# Altium footprint library local_lib.PcbLib: 3 footprints
Each footprint in its own frame and in the unit in brackets; x right, y up, seen from the top. Pads: shape width x height; smd on the part's side, far side on the other; paste and mask are expansions set on the pad; w line width, h text height; cw(c..) or ccw(c..) is an arc to the next point about the centre after c.
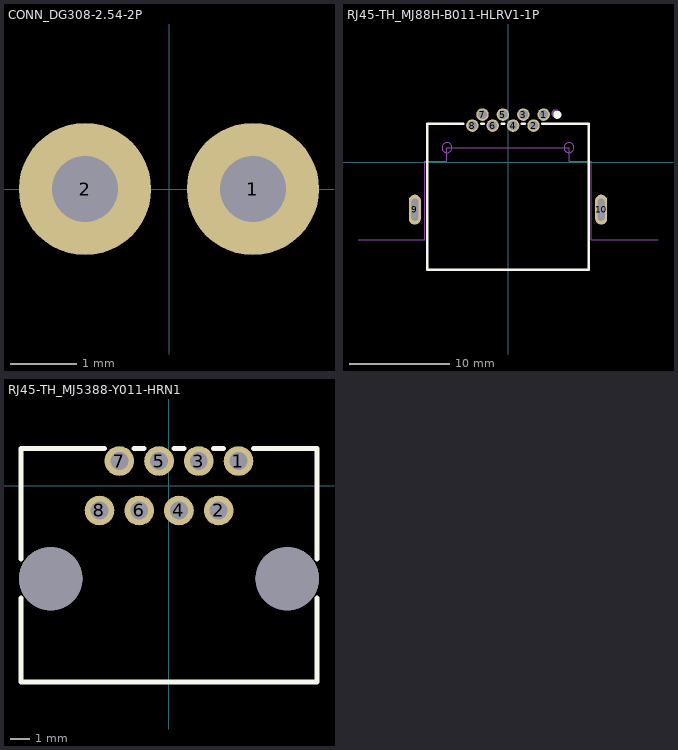
[diagram p0: the footprints below, top view; thin cyan lines are the x and y axes]

## CONN_DG308-2.54-2P [mm]
height 15.5
pads (2):
  round 2 hole 1 mask+0: 1(1.27,0) 2(-1.27,0)
3D body "DG308-2.step": height 7.83, standoff -4, extent -2.925,-3.05 2.875,2.972

## RJ45-TH_MJ88H-B011-HLRV1-1P [mm]
height 1.1
pads (10):
  round 1.25 hole 0.9 paste-2539.97 mask+0.05: 1(3.57,4.75) 2(2.55,3.65) 3(1.53,4.75) 4(0.51,3.65) 5(-0.51,4.75) 6(-1.53,3.65) 7(-2.55,4.75) 8(-3.57,3.65)
  oval 1.2x3 hole 0.7 slot 2.2 at 90 deg paste-2539.97 mask+0.05: 9(-9.32,-4.75) 10(9.32,-4.75)
Top Overlay:
  circle w0.4: c4.93,4.73 r0.2
  lines w0.254: -4.454,3.85 -8.09,3.85 -8.09,-10.75 -8.07,-10.74 8.09,-10.74 8.09,3.85 3.434,3.85 ; -2.686,3.85 -2.414,3.85 ; -0.646,3.85 -0.374,3.85 ; 1.394,3.85 1.666,3.85
Mechanical 1:
  circle w0.001: c6.1,1.45 r0.5
  circle w0.001: c-6.1,1.45 r0.5
  lines w0.001: -15,-7.75 -8.3,-7.75 -8.3,0.11 -6.1,0.11 -6.1,1.45 6.1,1.45 6.1,0.11 8.3,0.11 8.3,-7.75 15,-7.75
Mechanical 15:
  circle w0.4: c4.76,4.87 r0.2
3D body: height 8.8, standoff -1.15, extent -8.07,-10.74 8.09,1.45
3D body: height 8.95, standoff 0, extent -8.09,-10.74 8.09,3.85

## RJ45-TH_MJ5388-Y011-HRN1 [mil]
pads (10):
  round 60 hole 36 paste-99999 mask+1.97: 1(140.55,50) 2(100.39,-50) 3(60.24,50) 4(20.08,-50) 5(-20.08,50) 6(-60.24,-50) 7(-100.39,50) 8(-140.55,-50)
  round 127.95 hole 127.95 unplated paste-99999: ""(-239.37,-187.8) ""(239.37,-187.8)
Top Overlay:
  lines w10: -299.21,-226.98 -299.21,-396.46 299.21,-396.46 299.21,-226.98 ; -299.21,-148.61 -299.21,75 -130.43,75 ; -70.36,75 -50.11,75 ; 9.95,75 30.2,75 ; 90.27,75 110.52,75 ; 170.58,75 299.21,75 299.21,-148.61
3D body "3D_PCB1_2023-11-11.step": height 454.73, standoff -102.36, extent -299.21,-397.15 299.21,75.69